# Altium footprint library TB906_HW_V1.01.PcbLib: 10 footprints
Each footprint in its own frame and in the unit in brackets; x right, y up, seen from the top. Pads: shape width x height; smd on the part's side, far side on the other; paste and mask are expansions set on the pad; w line width, h text height; cw(c..) or ccw(c..) is an arc to the next point about the centre after c.
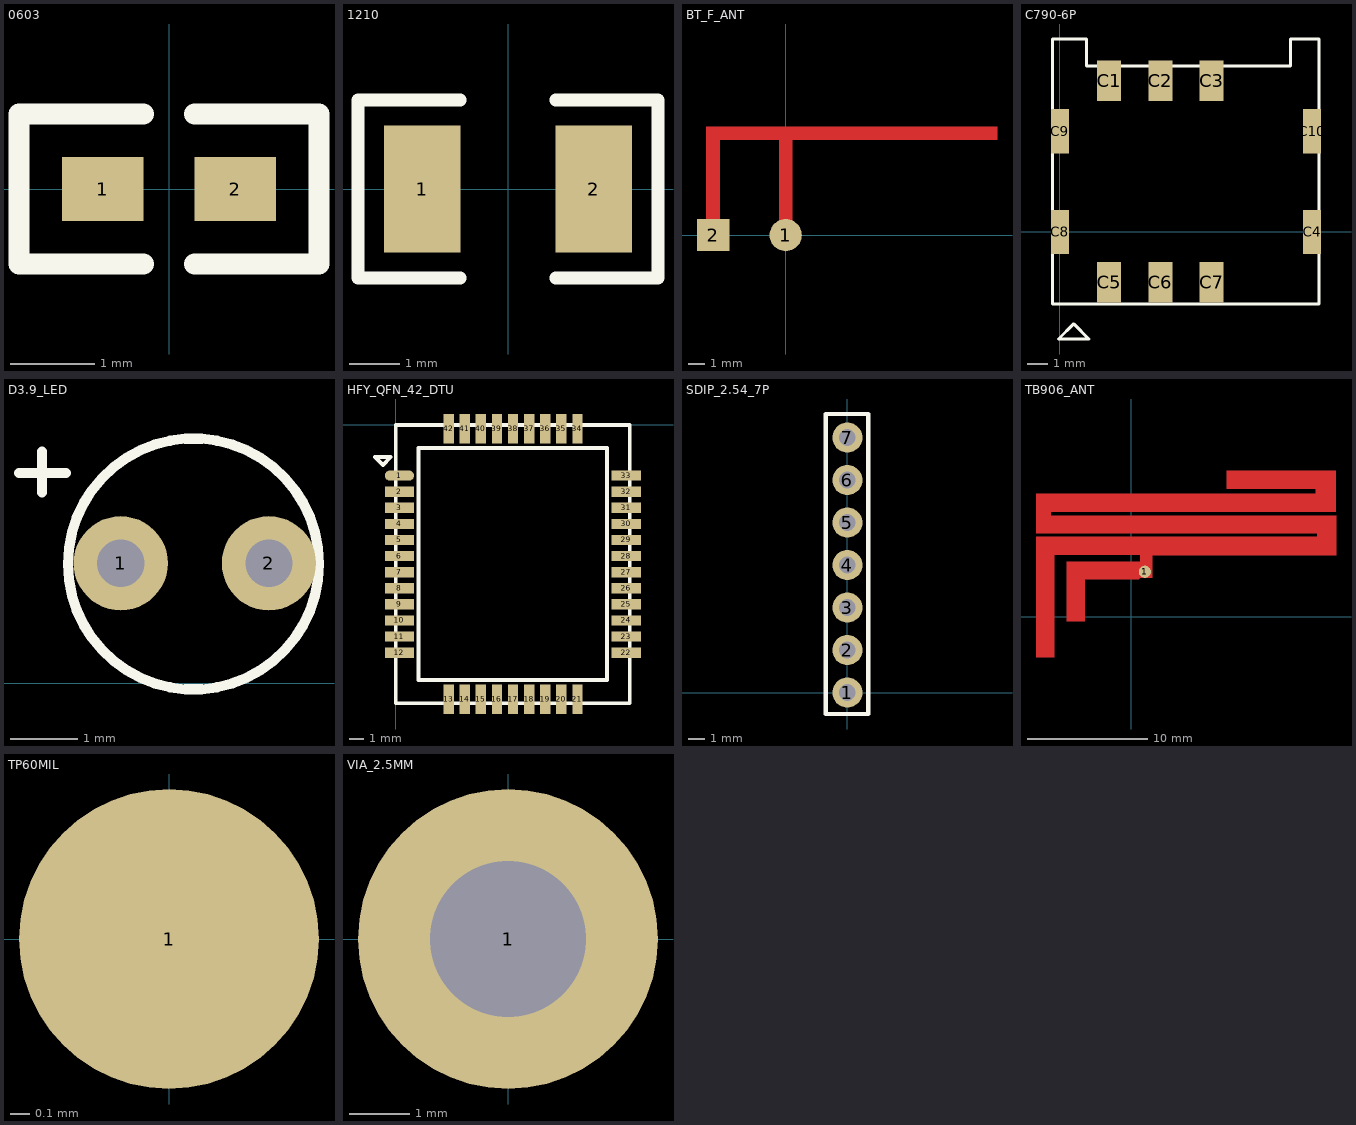
[diagram p0: the footprints below, top view; thin cyan lines are the x and y axes]

## 0603 [mil]
pads (2):
  rect 38x30 smd: 1(-31,0) 2(31,0)
Top Overlay:
  lines w10: -12,-35 -70,-35 -70,35 -12,35 ; 12,-35 70,-35 70,35 12,35

## 1210 [mil]
pads (2):
  rect 60x100 smd: 1(-67.5,0) 2(67.5,0)
Top Overlay:
  lines w10: -37.5,-70 -118,-70 -118,70 -37.5,70 ; 37.5,-70 118,-70 118,70 37.5,70

## BT_F_ANT [mm]
pads (2):
  round 2 smd: 1(0,0)
  rect 2x2 smd: 2(-4.494,0.005)
Top Layer:
  region: -4.915,5.898 -4.097,5.898 -4.097,0.78 -4.915,0.78
  region: -0.399,5.908 0.419,5.908 0.419,0.79 -0.399,0.79
  region: 13.082,6.713 -4.915,6.713 -4.915,5.893 13.082,5.893

## C790-6P [mm]
pads (10):
  rect 1.2x2 smd: C1(2.44,7.5) C2(4.98,7.5) C3(7.52,7.5) C5(2.44,-2.5) C6(4.98,-2.5) C7(7.52,-2.5)
  rect 0.9x2.2 smd: C4(12.5,0) C8(0,0) C9(0,5) C10(12.5,5)
Top Overlay:
  lines w0.15: -0.362,-3.582 12.83,-3.582 12.83,9.562 11.435,9.562 11.435,8.233 1.329,8.233 1.329,9.559 -0.362,9.559 -0.362,-3.582 ; -0.074,-5.305 0.681,-4.551 1.435,-5.305 -0.074,-5.305

## D3.9_LED [mm]
pads (2):
  round 1.4 hole 0.7: 1(-9.47,1.78) 2(-7.27,1.78)
Top Overlay:
  circle w0.15: c-8.39,1.77 r1.863
  lines w0.15: -10.98,3.12 -10.28,3.12 ; -10.64,2.83 -10.64,3.44

## HFY_QFN_42_DTU [mm]
pads (42):
  oval 2x0.7 smd: 1(0.25,-3.459)
  rect 2x0.7 smd: 2(0.25,-4.559) 3(0.25,-5.659) 4(0.25,-6.759) 5(0.25,-7.859) 6(0.25,-8.959) 7(0.25,-10.059) 8(0.25,-11.159) 9(0.25,-12.259) 10(0.25,-13.359) 11(0.25,-14.459) 12(0.25,-15.559) 22(15.75,-15.559) 23(15.75,-14.459) 24(15.75,-13.359) 25(15.75,-12.259) 26(15.75,-11.159) 27(15.75,-10.059) 28(15.75,-8.959) 29(15.75,-7.859) 30(15.75,-6.759) 31(15.75,-5.659) 32(15.75,-4.559) 33(15.75,-3.459)
  rect 0.7x2 smd: 13(3.612,-18.75) 14(4.712,-18.75) 15(5.812,-18.75) 16(6.912,-18.75) 17(8.012,-18.75) 18(9.112,-18.75) 19(10.212,-18.75) 20(11.312,-18.75) 21(12.412,-18.75) 34(12.412,-0.25) 35(11.312,-0.25) 36(10.212,-0.25) 37(9.112,-0.25) 38(8.012,-0.25) 39(6.912,-0.25) 40(5.812,-0.25) 41(4.712,-0.25) 42(3.612,-0.25)
Top Overlay:
  lines w0.254: -1.415,-2.193 -0.338,-2.193 -0.877,-2.731 -1.415,-2.193 ; 0,-19.011 15.987,-19.011 15.987,0 0,0 0,-19.011 ; 1.553,-17.423 14.432,-17.423 14.432,-1.567 1.553,-1.567 1.553,-17.423

## SDIP_2.54_7P [mm]
pads (7):
  round 1.8 hole 1: 1(0,0) 2(0,2.54) 3(0,5.08) 4(0,7.62) 5(0,10.16) 6(0,12.7) 7(0,15.24)
Top Overlay:
  lines w0.25: -1.292,-1.28 -1.292,16.649 1.248,16.649 1.248,-1.28 -1.292,-1.28

## TB906_ANT [mil]
pads (1):
  round 40 smd: 1(44.24,146.92)
Top Layer:
  region: 29.25,179.48 29.25,203.03 -254.13,203.03 -254.13,-133.32 -312.94,-133.32 -312.94,262.01 610.05,262.01 610.05,273.29 -313.35,273.29 -313.35,403.48 671.94,403.48 671.94,343.31 -264.37,343.31 -264.37,331.56 672.01,331.56 672.01,201.85 67.8,201.85 67.8,127.69 28.87,127.69 23.9,122.72 -152.53,122.72 -152.53,-16.09 -211.84,-16.09 -211.84,179.48
  region: 671.88,343.45 671.88,478.24 313.66,478.24 313.66,420.41 605.92,420.41 605.92,343.45

## TP60MIL [mil]
pads (1):
  round 60 smd: 1(0,0)

## VIA_2.5MM [mm]
pads (1):
  round 5 hole 2.6: 1(0,0)